# EAGLE library part STM32F103C8T6 (library STM32F103C8T6)
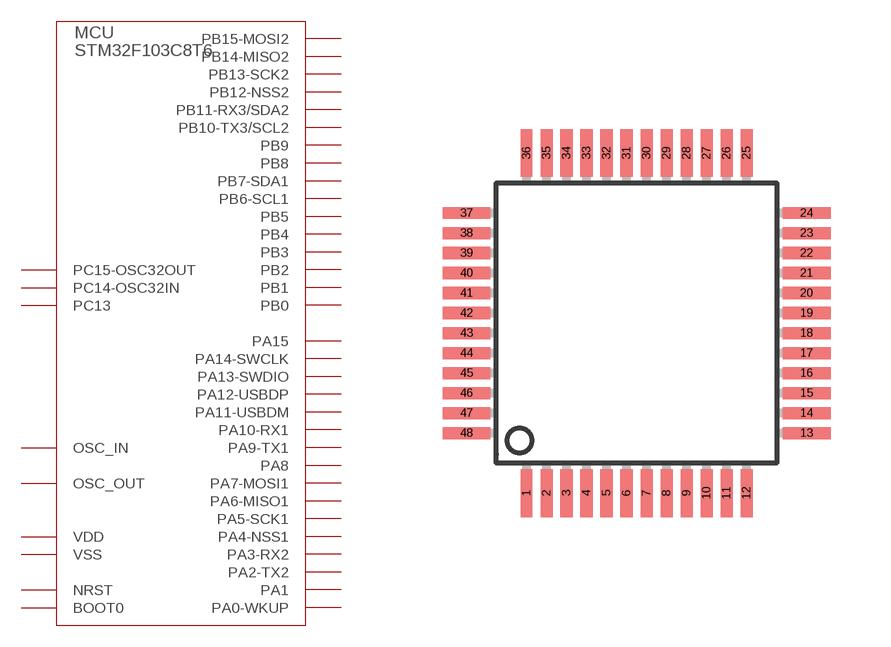
[diagram p0: symbol with the pads of LQFP48; footprint LQFP48]

Designator prefix MCU

## STM32F103C8T6  [LQFP48]
1  VDD
2  PC13
3  PC14-OSC32IN
4  PC15-OSC32OUT
5  OSC_IN
6  OSC_OUT
7  NRST
8  VSS
9  VDD
10  PA0-WKUP
11  PA1
12  PA2-TX2
13  PA3-RX2
14  PA4-NSS1
15  PA5-SCK1
16  PA6-MISO1
17  PA7-MOSI1
18  PB0
19  PB1
20  PB2
21  PB10-TX3/SCL2
22  PB11-RX3/SDA2
23  VSS
24  VDD
25  PB12-NSS2
26  PB13-SCK2
27  PB14-MISO2
28  PB15-MOSI2
29  PA8
30  PA9-TX1
31  PA10-RX1
32  PA11-USBDM
33  PA12-USBDP
34  PA13-SWDIO
35  VSS
36  VDD
37  PA14-SWCLK
38  PA15
39  PB3
40  PB4
41  PB5
42  PB6-SCL1
43  PB7-SDA1
44  BOOT0
45  PB8
46  PB9
47  VSS
48  VDD

## Footprint LQFP48 (pad centres in mm)
LQFP48 7 x 7 mm, 48-pin low-profile quad flat package
smd 0.3 x 1.2: 1 -2.75,-4.25; 2 -2.25,-4.25; 3 -1.75,-4.25; 4 -1.25,-4.25; 5 -0.75,-4.25; 6 -0.25,-4.25; 7 0.25,-4.25; 8 0.75,-4.25; 9 1.25,-4.25; 10 1.75,-4.25; 11 2.25,-4.25; 12 2.75,-4.25; 25 2.75,4.25; 26 2.25,4.25; 27 1.75,4.25; 28 1.25,4.25; 29 0.75,4.25; 30 0.25,4.25; 31 -0.25,4.25; 32 -0.75,4.25; 33 -1.25,4.25; 34 -1.75,4.25; 35 -2.25,4.25; 36 -2.75,4.25
smd 1.2 x 0.3: 13 4.25,-2.75; 14 4.25,-2.25; 15 4.25,-1.75; 16 4.25,-1.25; 17 4.25,-0.75; 18 4.25,-0.25; 19 4.25,0.25; 20 4.25,0.75; 21 4.25,1.25; 22 4.25,1.75; 23 4.25,2.25; 24 4.25,2.75; 37 -4.25,2.75; 38 -4.25,2.25; 39 -4.25,1.75; 40 -4.25,1.25; 41 -4.25,0.75; 42 -4.25,0.25; 43 -4.25,-0.25; 44 -4.25,-0.75; 45 -4.25,-1.25; 46 -4.25,-1.75; 47 -4.25,-2.25; 48 -4.25,-2.75